# EAGLE library part MICROCHIP-MCP3008 (library FaBo-ADC)
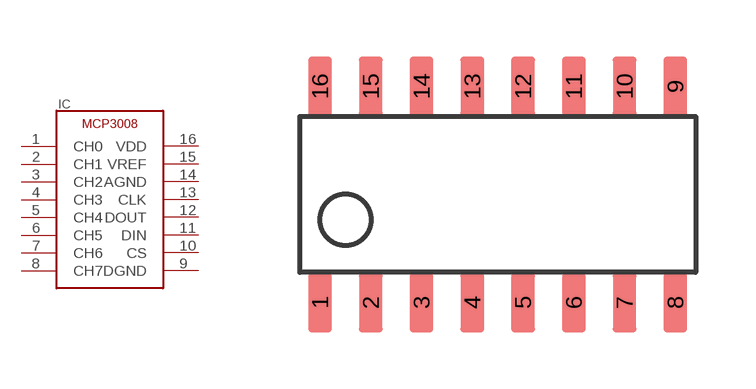
[diagram p1: symbol with the pads of MICROCHIP-MCP3008; footprint MICROCHIP-MCP3008]

Designator prefix IC

## MICROCHIP-MCP3008  [MICROCHIP-MCP3008]
1  CH0
2  CH1
3  CH2
4  CH3
5  CH4
6  CH5
7  CH6
8  CH7
9  DGND
10  CS
11  DIN
12  DOUT
13  CLK
14  AGND
15  VREF
16  VDD

## Footprint MICROCHIP-MCP3008 (pad centres in mm)
smd 0.6 x 1.5: 1 -4.445,-2.7; 2 -3.175,-2.7; 3 -1.905,-2.7; 4 -0.635,-2.7; 5 0.635,-2.7; 6 1.905,-2.7; 7 3.175,-2.7; 8 4.445,-2.7; 9 4.445,2.7; 10 3.175,2.7; 11 1.905,2.7; 12 0.635,2.7; 13 -0.635,2.7; 14 -1.905,2.7; 15 -3.175,2.7; 16 -4.445,2.7